# Altium schematic symbol library Passiv.SchLib: 22 symbols
Pins are listed as number, name and electrical type; pins without a type are passive.

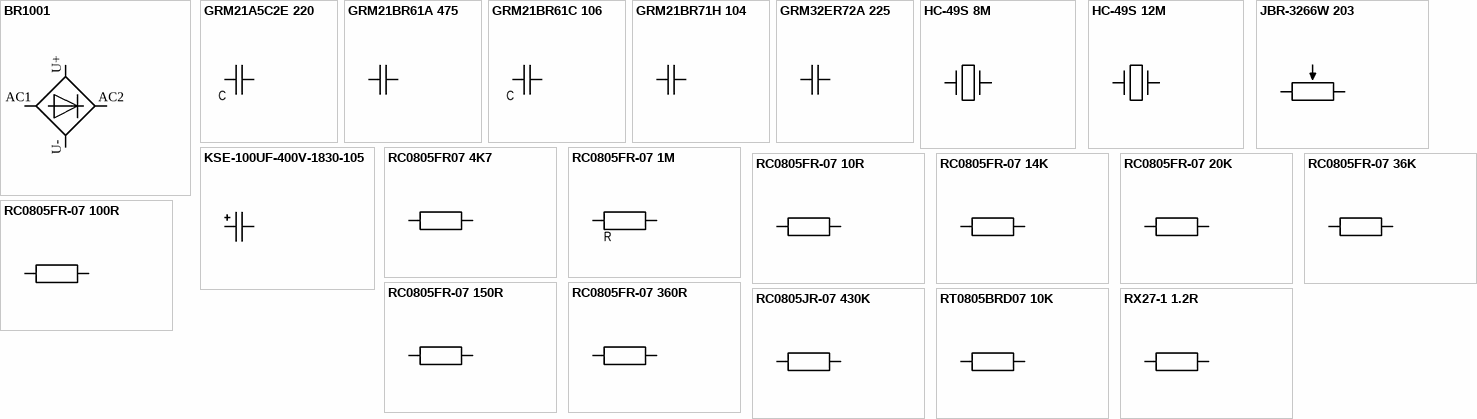
[diagram p0: symbols BR1001 to RX27-1 1.2R]

## BR1001
designator VD, comment 0
BR1001, Диодный мост однофазный 10А 100В [BR-10.] (=KBPC1001, BR101)
footprint BR-10
pins: AC1, AC2, U+, U-

## GRM21A5C2E 220
designator C, comment 22пФ
22пФ C0G 250B 5% 0805, GRM21A5C2E220J
footprint C 0805 (R 0805)
pins: 1, 2

## GRM21BR61A 475
designator C, comment 4.7мкф
GRM21BR61A475KA73L, (чип 0805 X5R 4.7uF +10% 10V), Керамический ЧИП-конденсатор 0805 X5R 4.7мкФ +10%
footprint C 0805 (C)
pins: 1, 2

## GRM21BR61C 106
designator C, comment 10мкФ
10 мкФ X5R 16В 10% 0805, GRM21BR61C106K
footprint C 0805 (R 0805)
pins: 1, 2

## GRM21BR71H 104
designator C, comment 0.1мкф
0.1 мкФ X7R 50В 10% 0805, GRM21BR71H104KA01L
footprint C 0805 (R 0805)
pins: 1, 2

## GRM32ER72A 225
designator C, comment 2.2мкф
2.2 мкФ X7R 10% 100В 1210, GRM32ER72A225K
footprint C 1210 (C)
pins: 1, 2

## HC-49S 8M
designator BQ, comment 8.000Мгц
8.000Мгц, HC-49S, Кварцевый резонатор
footprint HC-49S (BQ)
pins: 1, 2

## HC-49S 12M
designator BQ, comment 12.000Мгц
12.000Мгц, HC-49S, Кварцевый резонатор
footprint HC-49S (BQ)
pins: 1, 2

## JBR-3266W 203
designator R, comment 20к
JBR-3266W-203-R, 20 кОм, Резистор подстроечный
footprint JBR-3266W
pins: 1, 2, 3

## KSE-100UF-400V-1830-105
designator С, comment 100мкф
Конденсатор электролитический KSE-100UF-400V-1830-105
footprint KSE-100
pins: 1, 2

## RC0805FR07 4K7
designator R, comment 4.7к
0.125Вт 0805 4.7 кОм, 1%, RC0805FR-074K7L
footprint R 0805
pins: 1, 2

## RC0805FR-07 1M
designator R, comment 1М
0.125Вт 0805 1 МОм, 1%, RC0805FR-071ML
footprint R 0805
pins: 1, 2

## RC0805FR-07 10R
designator R, comment 10
0.125Вт 0805 10 Ом, 1%, RC0805FR-0710RL
footprint R 0805
pins: 1, 2

## RC0805FR-07 14K
designator R, comment 14к
14 кОм 0805 1% RC0805FR-0714K
footprint R 0805
pins: 1, 2

## RC0805FR-07 20K
designator R, comment 20к
0.125Вт 0805 20 кОм, 1%, RC0805FR-0720KL
footprint R 0805
pins: 1, 2

## RC0805FR-07 36K
designator R, comment 36к
RC0805FR-0736KL, (чип 0805 36.0К 1%), Толстопленочный ЧИП-резистор 0805 36кОм
footprint R 0805
pins: 1, 2

## RC0805FR-07 100R
designator R, comment 100
0.125Вт 0805 100 Ом, 1%, RC0805FR-07100RL
footprint R 0805
pins: 1, 2

## RC0805FR-07 150R
designator R, comment 150
RC0805FR-07150RL, (чип 0805 150 1%), Толстопленочный ЧИП-резистор 0805 150Ом +1% 0.125Вт
footprint R 0805
pins: 1, 2

## RC0805FR-07 360R
designator R, comment 360
RC0805FR-07360RL, (чип 0805 360 1%), Толстопленочный ЧИП-резистор 0805 360Ом +1% 0.125Вт
footprint R 0805
pins: 1, 2

## RC0805JR-07 430K
designator R, comment 430к
0.125Вт 0805 430 кОм, 5%, RC0805JR-07430KL
footprint R 0805
pins: 1, 2

## RT0805BRD07 10K
designator R, comment 10к
0.125Вт 0805 10 кОм, 0п.1%, RT0805BRD0710KL
footprint R 0805
pins: 1, 2

## RX27-1 1.2R
designator R, comment 1.2
RX27-1 1.2 Ом 5W 5% / SQP5, Мощный постоянный резистор , керамо-цементный корпус
footprint RX27-1
pins: 1, 2